# EAGLE library part WURTH-750315371 (library EagleLibrary)
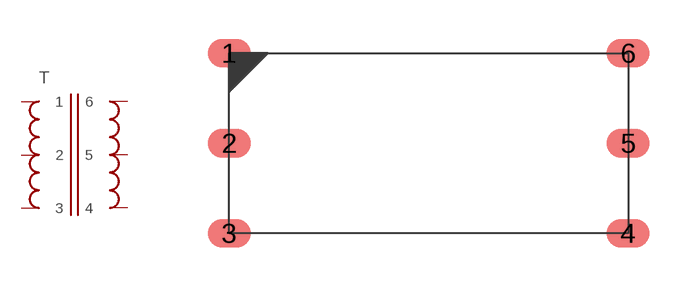
[diagram p31: symbol with the pads of WURTH-750315371; footprint WURTH-750315371]

Designator prefix T

## WURTH-750315371 (MFG: Wurth; PN: 750315371)  [WURTH-750315371]
1  1
2  2
3  3
4  4
5  5
6  6

## Footprint WURTH-750315371 (pad centres in mm)
6-SON (DFN), 0.50 mm pitch, 1.45 X 1.00 X 0.60 mm body 6-pin SON (DFN) package with 0.50 mm pitch with body size 1.45 X 1.00 X 0.60 mm
smd 1.2 x 0.8: 1 -5.62,2.54; 2 -5.62,0; 3 -5.62,-2.54; 4 5.62,-2.54; 5 5.62,0; 6 5.62,2.54